# Altium schematic symbol library OltestLib_popadjuk.SchLib: 115 symbols (part 1 of 2)
Pins are listed as number, name and electrical type; pins without a type are passive.

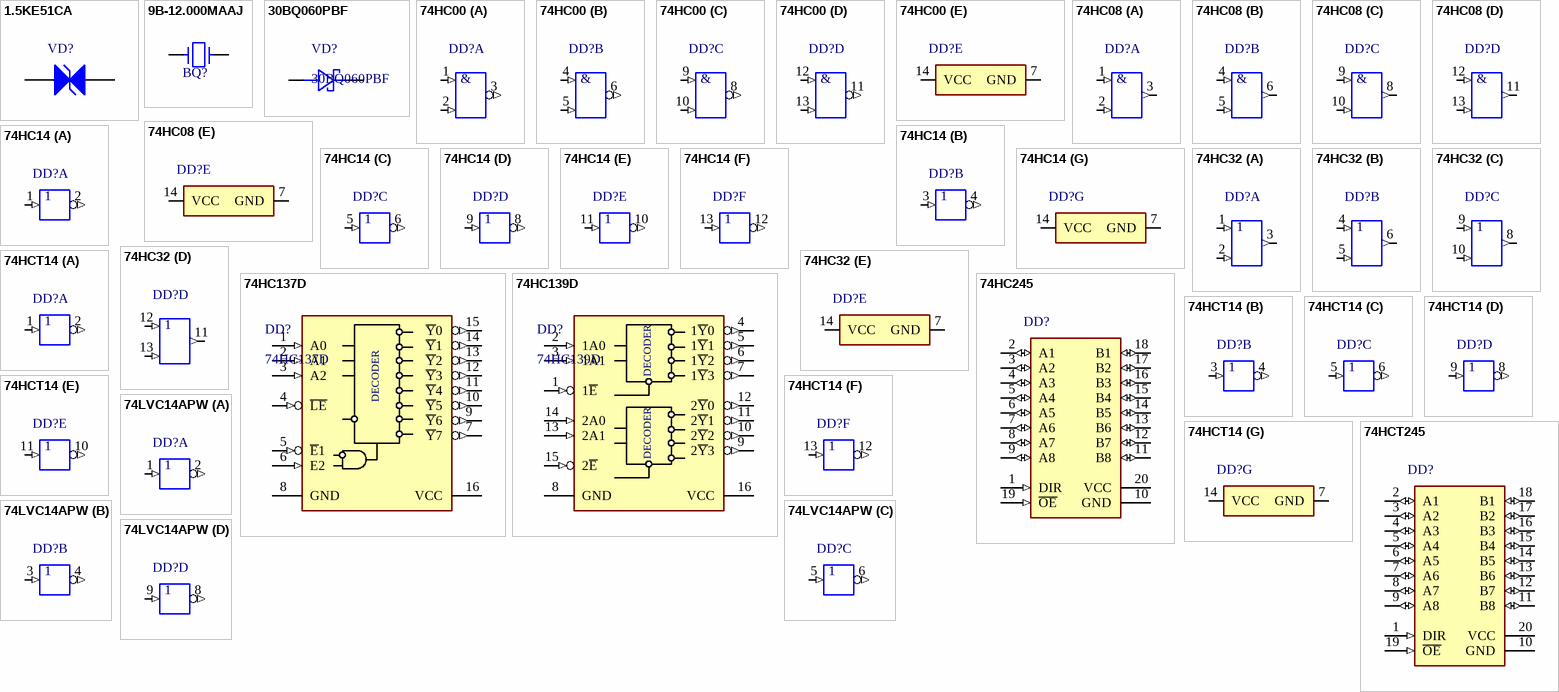
[diagram p0: symbols 1.5KE51CA to 74LVC14APW]

## 1.5KE51CA
designator VD?
1500 W Zener Transient Voltage Suppressor, Bidirectional; Manufacturer: LITTELFUSE; PartNumber: 1.5KE51CA
footprint 1.5KE_CA (AXIAL, 2-Leads, Diameter 5.05mm)
pins: 1, 2

## 9B-12.000MAAJ
designator BQ?, comment 12MHz  (value not drawn)
12MHz Quartz Crystal HC-49S; PartNumber: 9B-12.000MAAJ; Manufacturer: TXC; Value: 12MHz
footprint HC-49S
pins: 1, 2

## 30BQ060PBF
designator VD?
3A/60V Schottky 30BQ060PBF Diode (SMC); Manufacturer: NXP; PartNumber: 30BQ060PBF
footprint SMC_VD_L8.1_W6.2 (Schottky Diode, 2-Leads, Body 8,13x6,52mm, IPC Low Density)
pins: 1 ANODE, 2 CATHODE

## 74HC00
designator DD?
Quad 2-Input Positive-NAND Gates, PW0014A; Generic Part Number: SN74HC00; Manufacturer: Texas Instruments; PartNumber: SN74HC00PW; VCC(Min)(V): 2; VCC(Max)(V): 6; Output Type: CMOS; ICC @ Nom Voltage(Max)(mA): 0.02; Bits(#): 4; F @ Nom Voltage(Max)(Mhz): 70; Technology Family: HC; Voltage(Nom)(V): 5; Schmitt Trigger: Yes; Output Drive (IOL/IOH)(Max)(mA): 5.2/-5.2; tpd @ Nom Voltage(Max)(ns): 23; PackageReference: PW0014A; Input Type: CMOS; Operating Temperature Range(C): -40 to 85
footprint PW0014A_M (SOP, 14-Leads, Body 5.1x4.5mm, Pitch 0.65mm, IPC Low Density)
part A pins: 1 1A (in) "Gate 1 input", 2 1B (in) "Gate 1 input", 3 1Y (out) "Gate 1 output"
part B pins: 4 2A (in) "Gate 2 input", 5 2B (in) "Gate 2 input", 6 2Y (out) "Gate 2 output"
part C pins: 8 3Y (out) "Gate 3 output", 9 3A (in) "Gate 3 input", 10 3B (in) "Gate 3 input"
part D pins: 11 4Y (out) "Gate 4 output", 12 4A (in) "Gate 4 input", 13 4B (in) "Gate 4 input"
part E pins: 7 GND (power) "Ground Pin", 14 VCC (power) "Power Pin"
part A text: &
part B text: &
part C text: &
part D text: &

## 74HC08
designator DD?
Quadruple 2-Input Positive-AND Gates, PW0014A, TUBE; Generic Part Number: SN74HC08; Manufacturer: Texas Instruments; PartNumber: SN74HC08PW; VCC(Min)(V): 2; VCC(Max)(V): 6; Output Type: CMOS; ICC @ Nom Voltage(Max)(mA): 0.02; Bits(#): 4; F @ Nom Voltage(Max)(Mhz): 70; Rating: Catalog; Technology Family: HC; Voltage(Nom)(V): 5; Schmitt Trigger: No; tpd @ Nom Voltage(Max)(ns): 28; DatasheetVersion: SCLS081F; PackageReference: PW0014A; Input Type: CMOS; Operating Temperature Range(C): -40 to 85
footprint PW0014A_M (SOP, 14-Leads, Body 5.1x4.5mm, Pitch 0.65mm, IPC Low Density)
part A pins: 1 1A (in), 2 1B (in), 3 1Y (out)
part B pins: 4 2A (in), 5 2B (in), 6 2Y (out)
part C pins: 8 3Y (out), 9 3A (in), 10 3B (in)
part D pins: 11 4Y (out), 12 4A (in), 13 4B (in)
part E pins: 7 GND (power), 14 VCC (power)
part A text: &
part B text: &
part C text: &
part D text: &

## 74HC14
designator DD?
Quadruple 2-Input Positive-OR Gates, PW0014A; Manufacturer: Texas Instruments; PartNumber: SN74HC14PW; VCC(Min)(V): 2; VCC(Max)(V): 6; Output Type: CMOS; ICC @ Nom Voltage(Max)(mA): 0.02; Bits(#): 4; F @ Nom Voltage(Max)(Mhz): 70; Voltage(Nom)(V): 5; Output Drive (IOL/IOH)(Max)(mA): 5.2/-5.2; tpd @ Nom Voltage(Max)(ns): 25; PackageReference: PW0014A; Input Type: CMOS; Operating Temperature Range(C): -40 to 85
footprint PW0014A_M (SOP, 14-Leads, Body 5.1x4.5mm, Pitch 0.65mm, IPC Low Density)
part A pins: 1 1A (in), 2 1Y (out)
part B pins: 3 2A (in), 4 2Y (out)
part C pins: 5 3A (in), 6 3Y (out)
part D pins: 8 4Y (out), 9 4A (in)
part E pins: 10 5Y (out), 11 5A (in)
part F pins: 12 6Y (out), 13 6A (in)
part G pins: 7 GND (power), 14 VCC (power)

## 74HC32
designator DD?
Quadruple 2-Input Positive-OR Gates, PW0014A; Generic Part Number: SN74HC32; Manufacturer: Texas Instruments; PartNumber: SN74HC32PW; VCC(Min)(V): 2; VCC(Max)(V): 6; Output Type: CMOS; ICC @ Nom Voltage(Max)(mA): 0.02; Bits(#): 4; F @ Nom Voltage(Max)(Mhz): 70; Voltage(Nom)(V): 5; Output Drive (IOL/IOH)(Max)(mA): 5.2/-5.2; tpd @ Nom Voltage(Max)(ns): 25; PackageReference: PW0014A; Input Type: CMOS; Operating Temperature Range(C): -40 to 85
footprint PW0014A_M (SOP, 14-Leads, Body 5.1x4.5mm, Pitch 0.65mm, IPC Low Density)
part A pins: 1 1A (in), 2 1B (in), 3 1Y (out)
part B pins: 4 2A (in), 5 2B (in), 6 2Y (out)
part C pins: 8 3Y (out), 9 3A (in), 10 3B (in)
part D pins: 11 4Y (out), 12 4A (in), 13 4B (in)
part E pins: 7 GND (power), 14 VCC (power)

## 74HC137D
designator DD?
3-to-8 line decoder, demultiplexer with address latches;  inverting; Manufacturer: NXP; PartNumber: 74HC137D
footprint SOIC-16N (SOIC, 16-Leads, Body 9,80x3,90mm, Pitch 1,27mm, IPC Medium Density)
pins: 1 A0 (in) "Logic Input B.", 2 A1 (in) "Logic Input C.", 3 A2 (in) "Logic Input B.", 4 ~{LE} (in) "Logic Input A.", 5 ~{E}1 (in) "Logic Input A.", 6 E2 (in) "Logic Input A.", 7 ~{Y}7 (out), 8 GND (power) "Ground 1. Ground reference for Isolator Side 1.", 9 ~{Y}6 (out), 10 ~{Y}5 (out), 11 ~{Y}4 (out), 12 ~{Y}3 (out), 13 ~{Y}2 (out), 14 ~{Y}1 (out), 15 ~{Y}0 (out), 16 VCC (power) "Ground 2. Ground reference for Isolator Side 2."
text: DECODER

## 74HC139D
designator DD?
Dual 2-to-4 line decoder/demultiplexer; Manufacturer: NXP; PartNumber: 74HC139D
footprint SOIC-16N (SOIC, 16-Leads, Body 9,80x3,90mm, Pitch 1,27mm, IPC Medium Density)
pins: 1 1~{E} (in) "Logic Input A.", 2 1A0 (in) "Logic Input B.", 3 1A1 (in) "Logic Input C.", 4 1~{Y}0 (out), 5 1~{Y}1 (out), 6 1~{Y}2 (out), 7 1~{Y}3 (out), 8 GND (power) "Ground 1. Ground reference for Isolator Side 1.", 9 2~{Y}3 (out), 10 2~{Y}2 (out), 11 2~{Y}1 (out), 12 2~{Y}0 (out), 13 2A1 (in) "Logic Input C.", 14 2A0 (in) "Logic Input B.", 15 2~{E} (in) "Logic Input A.", 16 VCC (power) "Ground 2. Ground reference for Isolator Side 2."
text: DECODER

## 74HC245
designator DD?
Octal Bus Transceivers With 3-State Outputs, PW0020A; Manufacturer: Texas Instruments; PartNumber: SN74HC245PW; VCC(Min)(V): 2; VCC(Max)(V): 6; Output Type: CMOS; ICC @ Nom Voltage(Max)(mA): 0.08; Bits(#): 8; F @ Nom Voltage(Max)(Mhz): 28; Rating: Catalog; Technology Family: HC; Schmitt Trigger: No; Output Drive (IOL/IOH)(Max)(mA): -6/6; tpd @ Nom Voltage(Max)(ns): 22; DatasheetVersion: SCLS131D; PackageReference: PW0020A; Input Type: CMOS; Operating Temperature Range(C): -40 to 85; Voltage(Nom)(V): 6
footprint PW0020A_M (SOP, 20-Leads, Body 6.6x4.5mm, Pitch 0.65mm, IPC Low Density)
pins: 1 DIR (in), 2 A1 (io), 3 A2 (io), 4 A3 (io), 5 A4 (io), 6 A5 (io), 7 A6 (io), 8 A7 (io), 9 A8 (io), 10 GND (power), 11 B8 (io), 12 B7 (io), 13 B6 (io), 14 B5 (io), 15 B4 (io), 16 B3 (io), 17 B2 (io), 18 B1 (io), 19 ~{OE} (in), 20 VCC (power)

## 74HCT14
designator DD?
Quadruple 2-Input Positive-OR Gates, PW0014A; Manufacturer: Texas Instruments; PartNumber: SN74HC14TPW; PackageReference: PW0014A
footprint PW0014A_M (SOP, 14-Leads, Body 5.1x4.5mm, Pitch 0.65mm, IPC Low Density)
part A pins: 1 1A (in), 2 1Y (out)
part B pins: 3 2A (in), 4 2Y (out)
part C pins: 5 3A (in), 6 3Y (out)
part D pins: 8 4Y (out), 9 4A (in)
part E pins: 10 5Y (out), 11 5A (in)
part F pins: 12 6Y (out), 13 6A (in)
part G pins: 7 GND (power), 14 VCC (power)

## 74HCT245
designator DD?
Octal Bus Transceivers With 3-State Outputs, PW0020A; Manufacturer: Texas Instruments; PartNumber: SN74HCT245PW; VCC(Min)(V): 2; VCC(Max)(V): 6; Output Type: CMOS; ICC @ Nom Voltage(Max)(mA): 0.08; Bits(#): 8; F @ Nom Voltage(Max)(Mhz): 28; Rating: Catalog; Technology Family: HCT; Schmitt Trigger: No; Output Drive (IOL/IOH)(Max)(mA): -6/6; tpd @ Nom Voltage(Max)(ns): 22; PackageReference: PW0020A; Input Type: CMOS; Operating Temperature Range(C): -40 to 85; Voltage(Nom)(V): 6
footprint PW0020A_M (SOP, 20-Leads, Body 6.6x4.5mm, Pitch 0.65mm, IPC Low Density)
pins: 1 DIR (in), 2 A1 (io), 3 A2 (io), 4 A3 (io), 5 A4 (io), 6 A5 (io), 7 A6 (io), 8 A7 (io), 9 A8 (io), 10 GND (power), 11 B8 (io), 12 B7 (io), 13 B6 (io), 14 B5 (io), 15 B4 (io), 16 B3 (io), 17 B2 (io), 18 B1 (io), 19 ~{OE} (in), 20 VCC (power)

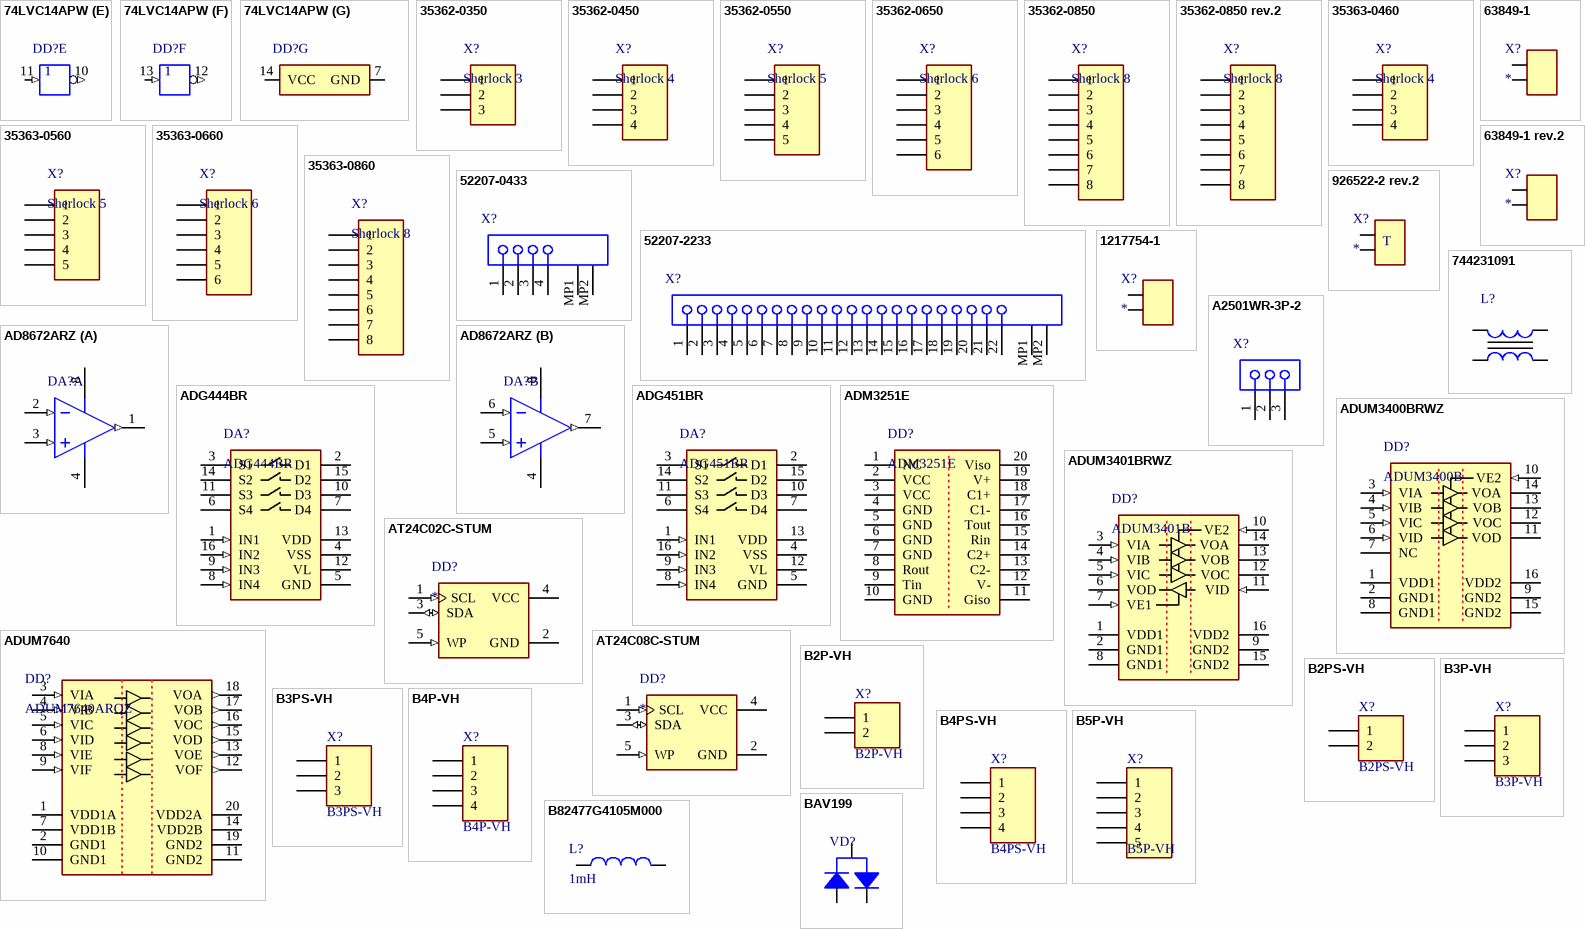
[diagram p1: symbols 74LVC14APW to BAV199]

## 74LVC14APW
designator DD?
Quadruple 2-Input Positive-OR Gates, PW0014A; Manufacturer: Texas Instruments; PartNumber: SN74LVC14APW; PackageReference: PW0014A
footprint PW0014A_M (SOP, 14-Leads, Body 5.1x4.5mm, Pitch 0.65mm, IPC Low Density)
part A pins: 1 1A (in), 2 1Y (out)
part B pins: 3 2A (in), 4 2Y (out)
part C pins: 5 3A (in), 6 3Y (out)
part D pins: 8 4Y (out), 9 4A (in)
part E pins: 10 5Y (out), 11 5A (in)
part F pins: 12 6Y (out), 13 6A (in)
part G pins: 7 GND (power), 14 VCC (power)

## 35362-0350
designator X?, comment Sherlock 3
Sherlock 3 Top, 2A 125V 2mm; PartNumber: 35362-0350; Manufacturer: MOLEX
footprint 35362-0350
pins: 1, 2, 3

## 35362-0450
designator X?, comment Sherlock 4
Sherlock 4 Top, 2A 125V 2mm; PartNumber: 35362-0450; Manufacturer: MOLEX
footprint 35362-0450
pins: 1, 2, 3, 4

## 35362-0550
designator X?, comment Sherlock 5
Sherlock 5 Top, 2A 125V 2mm; PartNumber: 35362-0550; Manufacturer: MOLEX
footprint 35362-0550
pins: 1, 2, 3, 4, 5

## 35362-0650
designator X?, comment Sherlock 6
Sherlock 6 Top, 2A 125V 2mm; PartNumber: 35362-0650; Manufacturer: MOLEX
footprint 35362-0650
pins: 1, 2, 3, 4, 5, 6

## 35362-0850
designator X?, comment Sherlock 8
Sherlock 8 Top, 2A 125V 2mm; PartNumber: 35362-0850; Manufacturer: MOLEX
footprint 35362-0850 - 3D (2.00mm Pitch Sherlock™ Wire-to-Board Header, Vertical, with Positive Lock, 8 Circuits, with Kinked PC Tails, Naturalh Positive Lock, 8 Circuits)
pins: 1, 2, 3, 4, 5, 6, 7, 8

## 35362-0850 rev.2
designator X?, comment Sherlock 8
Sherlock 8 Top, 2A 125V 2mm; PartNumber: 35362-0850; Manufacturer: MOLEX
footprint 35362-0850 - 3D rev.2 (2.00mm Pitch Sherlock™ Wire-to-Board Header, Vertical, with Positive Lock, 8 Circuits, with Kinked PC Tails, Naturalh Positive Lock, 8 Circuits)
pins: 1, 2, 3, 4, 5, 6, 7, 8

## 35363-0460
designator X?, comment Sherlock 4
Sherlock 4 Side, 2A 125V 2mm; PartNumber: 35363-0460; Manufacturer: MOLEX
footprint 35363-0460
pins: 1, 2, 3, 4

## 35363-0560
designator X?, comment Sherlock 5
Sherlock 5 Side, 2A 125V 2mm; PartNumber: 35363-0560; Manufacturer: MOLEX
footprint 35363-0560
pins: 1, 2, 3, 4, 5

## 35363-0660
designator X?, comment Sherlock 6
Sherlock 6 Side, 2A 125V 2mm; PartNumber: 35362-0650; Manufacturer: MOLEX
footprint 35363-0860 (2.00mm Pitch Sherlock™ Wire-to-Board Header, Right Angle, with Positive Lock, 8 Circuits)
pins: 1, 2, 3, 4, 5, 6

## 35363-0860
designator X?, comment Sherlock 8
Sherlock 8 Top, 2A 125V 2mm; PartNumber: 35363-0860; Manufacturer: MOLEX
footprint 35363-0860 (2.00mm Pitch Sherlock™ Wire-to-Board Header, Right Angle, with Positive Lock, 8 Circuits)
pins: 1, 2, 3, 4, 5, 6, 7, 8

## 52207-0433
designator X?
1.0 mm Pitch, 4 Circuits, FPC Connector, Right Angle, ZIF, SMT; Manufacturer: Molex; PartNumber: 52207-0433
footprint MOLX-52207-0433 (FPC Connector, 4-Leads, Right Angle, Pitch 1.0 mm, Mated Height 2.7 mm, SMT)
pins: 1, 2, 3, 4, MP1, MP2

## 52207-2233
designator X?
1.0 mm Pitch, 22 Circuits, FPC Connector, Right Angle, ZIF, SMT; Manufacturer: Molex; PartNumber: 52207-2233
footprint MOLX-52207-2233 (FPC Connector, 22-Leads, Right Angle, Pitch 1.0 mm, Mated Height 2.7 mm, SMT)
pins: 1, 2, 3, 4, 5, 6, 7, 8, 9, 10, 11, 12, 13, 14, 15, 16, 17, 18, 19, 20, 21, 22, MP1, MP2

## 63849-1
designator X?
PCB mount, 6.3x0.8; Manufacturer: TE Connectivity; PartNumber: 63849-1
footprint 63849-1 rev. 2
pins: 1, 2

## 63849-1 rev.2
designator X?
PCB mount, 6.3x0.8; Manufacturer: TE Connectivity; PartNumber: 63849-1
footprint 63849-1 rev. 2
pins: 1, 2

## 926522-2 rev.2
designator X?
PCB mount, 6.3x0.8 x2 "T"; Manufacturer: TE Connectivity; PartNumber: 926522-2
footprint 926522-2 rev.2 (Double 63849-1 "T")
pins: 1, 2
text: T

## 1217754-1
designator X?
Angle 90, PCB mount, 6.3x0.8; Manufacturer: TE Connectivity; PartNumber: 1217754-1
footprint 1217754-1
pins: 1, 2

## 744231091
designator L?
SMD Common Mode Noise Suppressor WE-CNSW, Z = 90 Ohm; PartNumber: 744231091; Manufacturer: Wurth Elektronik; Impedance: 90 Ohm; DatasheetVersion: ver 4, Nov-2010; PackageReference: WE-CNSW-0805; PackageDescription: SMD Inductor, 4-Leads, Body 1.4 x 2.2 mm
footprint WE-CNSW-0805 (SMD Inductor, 4-Leads, Body 1.4x2.2x1.4 mm)
pins: 1, 2, 3, 4

## A2501WR-3P-2
designator X?
3A 250V 2.5mm (Analog JST S3B-XH-A-1); Manufacturer: JOINT TECH; PartNumber: A2501WR-3P-2
footprint S3B-XH-A-1
pins: 1, 2, 3

## AD8672ARZ
designator DA?
Double Channel Wide Bandwidth Operational Amplifier, 10 MHz BW, 4 V/us SR, Industrial, 8-pin SOIC (R-8), Tube; Generic Part Number: AD8672; Manufacturer: Analog Devices; PartNumber: AD8672ARZ; Amplifiers Per Package: 2; Input Bias Current: 3nA; Input Offset Voltage: 20uV; Iq/Amp: 3.5mA; Slew Rate: 4V/us; Small Signal Bandwidth: 10MHz; V Span Max: 30V; V Span Min: 10V; DatasheetVersion: Rev. E; PackageVersion: 060506-A; PackageReference: R-8; PackageDescription: 8-Pin Standard Small Outline Package, Body 3.9 x 4.9 mm, Pitch 1.27 mm; Supplier Part Number 1: AD8672ARZ-ND; Supplier Part Number 2: 1581957; Supplier Part Number 3: 19M0999; Mounting Technology: Surface Mount; Code_JEDEC: MS-012-AA; ComponentLink1Description: Manufacturer URL; ComponentLink1URL: http://www.analog.com/en/index.html; ComponentLink2Description: Datasheet; ComponentLink2URL: http://www.analog.com/static/imported-files/data_sheets/AD8671_8672_8674.pdf; ComponentLink3Description: Package Specification; ComponentLink3URL: http://www.analog.com/static/imported-files/packages/PKG_PDF/SOIC_Narrow%20(R)/R_8.pdf; ComponentLink4Description: Reference Circuit; ComponentLink4URL: http://www.analog.com/en/all-operational-amplifiers-op-amps/operational-amplifiers-op-amps/ad8672/products/product.html#product-recommendations
footprint ADI-R-8_N (SOIC, 8-Leads, Body 4.9x3.9mm, Pitch 1.27mm, IPC Medium Density)
pins on every part: 4 -V (power), 8 +V (power)
part A pins: 1 OUT A (out), 2 -IN A (in), 3 +IN A (in)
part B pins: 5 +IN B (in), 6 -IN B (in), 7 OUT B (out)

## ADG444BR
designator DA?
LC2MOS Quad SPST Switches, 40 Ohm Ron, 16-pin SOIC (R-16), Tube; Manufacturer: Analog Devices; # Sw Functions: 4; Max Neg Supply: -16.5V; Max Pos Supply: +16.5V; Ron (ohms): 40, 70; t ON: 85ns, 105ns; DatasheetVersion: Rev. A; PackageVersion: 060606-A, 06/2006; PackageReference: R-16; PackageDescription: 16-Pin Standard Small Outline Package, Body 9.9 x 3.9 mm, Pitch 1.27 mm; Configuration: SPST; Packing: Tube; Mounting Technology: Surface Mount; Code_JEDEC: MS-012-AC; PartNumber: ADG444BR; ComponentLink1Description: Manufacturer URL; ComponentLink1URL: http://www.analog.com/en/index.html; ComponentLink2Description: Datasheet; ComponentLink2URL: http://www.analog.com/static/imported-files/data_sheets/ADG441_442_444.pdf; ComponentLink3Description: Package Specification; ComponentLink3URL: http://www.analog.com/static/imported-files/packages/PKG_PDF/SOIC_Narrow%20(R)/R_16.pdf
footprint ADI-R-16_N (SOIC, 16-Leads, Body 9.9x3.9mm, Pitch 1.27mm, IPC Medium Density)
pins: 1 IN1 (in) "Logic Control Input.", 2 D1 "Drain Terminal. May be an input or output.", 3 S1 "Source Terminal. May be an input or output.", 4 VSS (power) "Most Negative Power Supply Potential in Dual Supplies. In single supply applications, it may be connected to GND.", 5 GND (power) "Ground (0 V) Reference.", 6 S4 "Source Terminal. May be an input or output.", 7 D4 "Drain Terminal. May be an input or output.", 8 IN4 (in) "Logic Control Input.", 9 IN3 (in) "Logic Control Input.", 10 D3 "Drain Terminal. May be an input or output.", 11 S3 "Source Terminal. May be an input or output.", 12 VL (power) "Logic Power Supply (5 V).", 13 VDD (power) "Most Positive Power Supply Potential.", 14 S2 "Source Terminal. May be an input or output.", 15 D2 "Drain Terminal. May be an input or output.", 16 IN2 (in) "Logic Control Input."

## ADG451BR
designator DA?
LC2MOS Quad SPST Switches, 4 Ohm Ron, 16-pin SOIC (R-16), Tube; Manufacturer: Analog Devices; # Sw Functions: 4; Max Neg Supply: -16.5V; Max Pos Supply: +16.5V; Ron (ohms): 4, 7; DatasheetVersion: Rev. A; Configuration: SPST; Mounting Technology: Surface Mount; PartNumber: ADG451BR; ComponentLink1Description: Manufacturer URL; ComponentLink1URL: http://www.analog.com/en/index.html; ComponentLink2Description: Datasheet; ComponentLink2URL: http://www.analog.com/static/imported-files/data_sheets/ADG441_442_444.pdf; ComponentLink3Description: Package Specification; ComponentLink3URL: http://www.analog.com/static/imported-files/packages/PKG_PDF/SOIC_Narrow%20(R)/R_16.pdf
footprint ADI-R-16_N (SOIC, 16-Leads, Body 9.9x3.9mm, Pitch 1.27mm, IPC Medium Density)
pins: 1 IN1 (in) "Logic Control Input.", 2 D1 "Drain Terminal. May be an input or output.", 3 S1 "Source Terminal. May be an input or output.", 4 VSS (power) "Most Negative Power Supply Potential in Dual Supplies. In single supply applications, it may be connected to GND.", 5 GND (power) "Ground (0 V) Reference.", 6 S4 "Source Terminal. May be an input or output.", 7 D4 "Drain Terminal. May be an input or output.", 8 IN4 (in) "Logic Control Input.", 9 IN3 (in) "Logic Control Input.", 10 D3 "Drain Terminal. May be an input or output.", 11 S3 "Source Terminal. May be an input or output.", 12 VL (power) "Logic Power Supply (5 V).", 13 VDD (power) "Most Positive Power Supply Potential.", 14 S2 "Source Terminal. May be an input or output.", 15 D2 "Drain Terminal. May be an input or output.", 16 IN2 (in) "Logic Control Input."

## ADM3251E
designator DD?
Isolated, Single-Channel, RS-232 Line Driver/Receiver; Manufacturer: Analog Device; PartNumber: ADM3251EARWZ
footprint RW-20 (SOIC, 20-Leads, Body 12,80x7,50mm, Pitch 1,27mm, IPC Low Density)
pins: 1 NC, 2 VCC (power), 3 VCC (power), 4 GND (power), 5 GND (power), 6 GND (power), 7 GND (power), 8 Rout, 9 Tin, 10 GND (power), 11 Giso, 12 V-, 13 C2-, 14 C2+, 15 Rin, 16 Tout, 17 C1-, 18 C1+, 19 V+, 20 Viso

## ADUM3400BRWZ
designator DD?, comment ADUM3400B
Quad Channel Digital Isolator, Enhanced System-Level ESD Reliability, 2.5 KV rms Insulation Rating, 10 Mbps Data Rate, 50 ns Delay, Industrial, 16-pin SOIC (RW-16), Tube; Manufacturer: Analog Devices; PartNumber: ADUM3400BRWZ; Insulation Rating (kVrms): 2.5; Max Data Rate: 10Mbps; DatasheetVersion: Rev. B; PackageVersion: 032707-B, 03/2007; PackageReference: RW-16; PackageDescription: 16-Pin Standard Small Outline Package, Body 10.3 x 7.5 mm, Pitch 1.27 mm; Max Operating Temp (degreesC): 105; Mounting Technology: Surface Mount; Code_JEDEC: MS-013-AA; ComponentLink1Description: Manufacturer URL; ComponentLink1URL: http://www.analog.com/en/index.html; ComponentLink2Description: Datasheet; ComponentLink2URL: http://www.analog.com/static/imported-files/data_sheets/ADUM3400_3401_3402.pdf; ComponentLink3Description: Package Specification; ComponentLink3URL: http://www.analog.com/static/imported-files/packages/PKG_PDF/SOIC_WIDE%20%28RW%29/RW_16.pdf; ComponentLink4Description: URL Link1; ComponentLink4URL: Product URL:http://www.analog.com/en/interface-isolation/digital-isolators/adum3400/products/product.html
footprint ADI-RW-16_N (SOIC, 16-Leads, Body 10.3x7.5mm, Pitch 1.27mm, IPC Medium Density)
pins: 1 VDD1 (power) "Supply Voltage for Isolator Side 1.", 2 GND1 (power) "Ground 1. Ground reference for Isolator Side 1.", 3 VIA (in) "Logic Input A.", 4 VIB (in) "Logic Input B.", 5 VIC (in) "Logic Input C.", 6 VID (in) "Logic Input D.", 7 NC "No Connect.", 8 GND1 (power) "Ground 1. Ground reference for Isolator Side 1.", 9 GND2 (power) "Ground 2. Ground reference for Isolator Side 2.", 10 VE2 (in) "Output Enable 2. Active high logic input. VOA, VOB, VOC, and VOD outputs are enabled when VE2 is high or disconnected. VOA, VOB, VOC, and VOD outputs are disabled when VE2 is low. In noisy environments, connecting VE2 to an (See Datasheet)", 11 VOD (hiz) "Logic Output D.", 12 VOC (hiz) "Logic Output C.", 13 VOB (hiz) "Logic Output B.", 14 VOA (hiz) "Logic Output A.", 15 GND2 (power) "Ground 2. Ground reference for Isolator Side 2.", 16 VDD2 (power) "Supply Voltage for Isolator Side 2."

## ADUM3401BRWZ
designator DD?, comment ADUM3401B
Quad Channel Digital Isolator, Enhanced System-Level ESD Reliability, 2.5 KV rms Insulation Rating, 10 Mbps Data Rate, 50 ns Delay, Industrial, 16-pin SOIC (RW-16), Tube; Manufacturer: Analog Devices; PartNumber: ADUM3401BRWZ; Insulation Rating (kVrms): 2.5; Max Data Rate: 10Mbps; DatasheetVersion: Rev. B; PackageVersion: 032707-B, 03/2007; PackageReference: RW-16; PackageDescription: 16-Pin Standard Small Outline Package, Body 10.3 x 7.5 mm, Pitch 1.27 mm; Max Operating Temp (degreesC): 105; Mounting Technology: Surface Mount; Code_JEDEC: MS-013-AA; ComponentLink1Description: Manufacturer URL; ComponentLink1URL: http://www.analog.com/en/index.html; ComponentLink2Description: Datasheet; ComponentLink2URL: http://www.analog.com/static/imported-files/data_sheets/ADUM3400_3401_3402.pdf; ComponentLink3Description: Package Specification; ComponentLink3URL: http://www.analog.com/static/imported-files/packages/PKG_PDF/SOIC_WIDE%20%28RW%29/RW_16.pdf; ComponentLink4Description: URL Link1; ComponentLink4URL: Product URL:http://www.analog.com/en/interface-isolation/digital-isolators/adum3401/products/product.html
footprint ADI-RW-16_N (SOIC, 16-Leads, Body 10.3x7.5mm, Pitch 1.27mm, IPC Medium Density)
pins: 1 VDD1 (power) "Supply Voltage for Isolator Side 1.", 2 GND1 (power) "Ground 1. Ground reference for Isolator Side 1.", 3 VIA (in) "Logic Input A.", 4 VIB (in) "Logic Input B.", 5 VIC (in) "Logic Input C.", 6 VOD (hiz) "Logic Output D.", 7 VE1 (in) "Output Enable 1. Active high logic input. VOD output is enabled when VE1 is high or disconnected. VOD is disabled when VE1 is low. In noisy environments, connecting VE1 to an external logic high or low is recommended.", 8 GND1 (power) "Ground 1. Ground reference for Isolator Side 1.", 9 GND2 (power) "Ground 2. Ground reference for Isolator Side 2.", 10 VE2 (in) "Output Enable 2. Active high logic input. VOA, VOB, and VOC outputs are enabled when VE2 is high or disconnected. VOA, VOB, and VOC outputs are disabled when VE2 is low. In noisy environments, connecting VE2 to an external (See Datasheet)", 11 VID (in) "Logic Input D.", 12 VOC (hiz) "Logic Output C.", 13 VOB (hiz) "Logic Output B.", 14 VOA (hiz) "Logic Output A.", 15 GND2 (power) "Ground 2. Ground reference for Isolator Side 2.", 16 VDD2 (power) "Supply Voltage for Isolator Side 2."

## ADUM7640
designator DD?, comment ADUM7640ARQZ
Manufacturer: Analog Devices; PartNumber: ADUM7640ARQZ
footprint RQ-20 (QSOP, 20-Leads, Body 8,66x3,91mm, Pitch 0,64mm, IPC Low Density)
pins: 1 VDD1A (power) "Supply Voltage for Isolator Side 1.", 2 GND1 (power) "Ground 1. Ground reference for Isolator Side 1.", 3 VIA (in) "Logic Input A.", 4 VIB (in) "Logic Input B.", 5 VIC (in) "Logic Input C.", 6 VID (in) "Logic Input D.", 7 VDD1B (power) "Supply Voltage for Isolator Side 1.", 8 VIE (in) "Logic Input D.", 9 VIF (in) "Logic Input D.", 10 GND1 (power) "Ground 1. Ground reference for Isolator Side 1.", 11 GND2 (power) "Ground 2. Ground reference for Isolator Side 2.", 12 VOF (out) "Logic Output D.", 13 VOE (out) "Logic Output C.", 14 VDD2B (power) "Supply Voltage for Isolator Side 2.", 15 VOD (out) "Logic Output D.", 16 VOC (out) "Logic Output C.", 17 VOB (out) "Logic Output B.", 18 VOA (out) "Logic Output A.", 19 GND2 (power) "Ground 2. Ground reference for Isolator Side 2.", 20 VDD2A (power) "Supply Voltage for Isolator Side 2."

## AT24C02C-STUM
designator DD?
I2C Serial EEPROM, 2-Kbit (256 x 8); PartNumber: AT24C02C-STUM-T; Manufacturer: ATMEL
footprint 5TS1 (SOT23, 5-Leads, Body 2,90x2,80mm, Pitch 0,95mm, IPC Medium Density)
pins: 1 SCL (in), 2 GND (power), 3 SDA (io), 4 VCC (power), 5 WP (in)

## AT24C08C-STUM
designator DD?
I2C Serial EEPROM, 8-Kbit (1024 x 8); PartNumber: AT24C08C-STUM-T; Manufacturer: ATMEL
footprint 5TS1 (SOT23, 5-Leads, Body 2,90x2,80mm, Pitch 0,95mm, IPC Medium Density)
pins: 1 SCL (in), 2 GND (power), 3 SDA (io), 4 VCC (power), 5 WP (in)

## B2P-VH
designator X?
VH Top, 10A 250V 3.96mm; Manufacturer: JST; PartNumber: B2P-VH
footprint B2P-VH
pins: 1, 2

## B2PS-VH
designator X?
VH Side, 10A 250V 3.96mm; Manufacturer: JST; PartNumber: B2PS-VH
footprint B2PS-VH
pins: 1, 2

## B3P-VH
designator X?
VH Top, 10A 250V 3.96mm; Manufacturer: JST; PartNumber: B3P-VH
footprint B3P-VH
pins: 1, 2, 3

## B3PS-VH
designator X?
VH Side, 10A 250V 3.96mm; Manufacturer: JST; PartNumber: B3PS-VH
footprint B3PS-VH
pins: 1, 2, 3

## B4P-VH
designator X?
VH Top, 10A 250V 3.96mm; Manufacturer: JST; PartNumber: B4P-VH
footprint B4P-VH
pins: 1, 2, 3, 4

## B4PS-VH
designator X?
VH Side, 10A 250V 3.96mm; Manufacturer: JST; PartNumber: B4PS-VH
footprint B4PS-VH
pins: 1, 2, 3, 4

## B5P-VH
designator X?
VH Top, 10A 250V 3.96mm; Manufacturer: JST; PartNumber: B5P-VH
footprint B5P-VH
pins: 1, 2, 3, 4, 5

## B82477G4105M000
designator L?, comment 1mH
1mH/0.55A 20% (1,68) Ferrite inductor SMD (12.8x12.8x8); Manufacturer: TDK(EPCOS); PartNumber: B82477G4105M000; Value: 1mH
footprint SMD_L_L12.8_W12.8 (Precision Wire Wound Inductor, 2-Leads, Body 12,80x12,80mm, IPC Low Density)
pins: 1, 2

## BAV199
designator VD?
Dual Series Switching Diodes, 3-Pin SOT-23, Tape and Reel; Manufacturer: On Semiconductor; PartNumber: BAV199LT1
footprint SOT-23-3 (SOT23, 3-Leads, Body 2.92x1.3mm, Pitch 0.95mm)
pins: 1 A, 2 K, 3 K/A

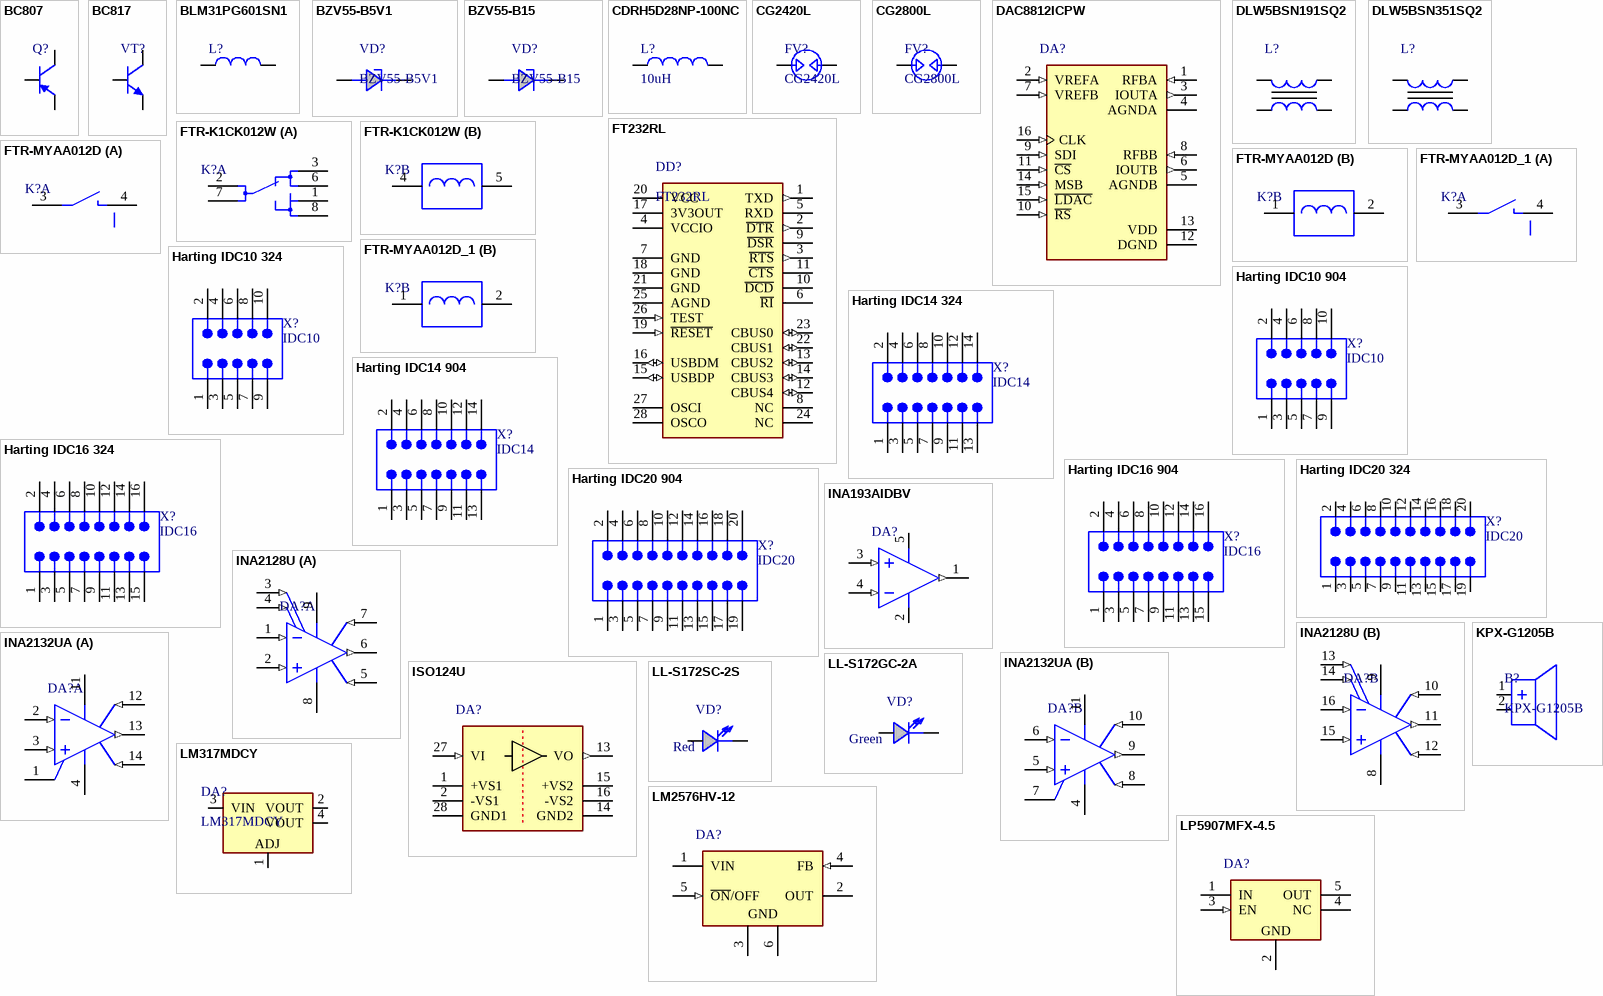
[diagram p2: symbols BC807 to LP5907MFX-4.5]

## BC807
designator Q?
PNP Silicon, 3-Pin SOT-23; Manufacturer: NXP; PartNumber: BC807
footprint SOT-23-3 (SOT23, 3-Leads, Body 2.92x1.3mm, Pitch 0.95mm)
pins: 1 B, 2 E, 3 C

## BC817
designator VT?
NPN Silicon, 3-Pin SOT-23; Manufacturer: NXP; PartNumber: BC817
footprint SOT-23-3 (SOT23, 3-Leads, Body 2.92x1.3mm, Pitch 0.95mm)
pins: 1 B, 2 E, 3 C

## BLM31PG601SN1
designator L?
EMI Filter Bead; Manufacturer: MURATA; PartNumber: BLM31PG601SN1
footprint SMD_L_1206 (Chip Ind, 2-Leads, Body 3,20x1,60mm, IPC Low Density)
pins: 1, 2

## BZV55-B5V1
designator VD?
Volt. regul. diode, 0.5W 5.1V 2%; Manufacturer: NXP; PartNumber: BZV55-B5V1
footprint SOD80C (MELF Diode, 2-Leads, Body 3,50x1,53mm, IPC Medium Density)
pins: 1 ANODE, 2 CATHODE

## BZV55-B15
designator VD?
Volt. regul. diode, 0.5W 15V 2%; Manufacturer: NXP; PartNumber: BZV55-B15
footprint SOD80C (MELF Diode, 2-Leads, Body 3,50x1,53mm, IPC Medium Density)
pins: 1 ANODE, 2 CATHODE

## CDRH5D28NP-100NC
designator L?, comment 10uH
10uH, SMD Power Inductor; Manufacturer: SUMIDA; PartNumber: CDRH5D28NP-100NC; Value: 10uH
footprint CDRH5D28NP (Precision Wire Wound Inductor, 2-Leads, Body 5,75x5,75mm, IPC Low Density)
pins: 1, 2

## CG2420L
designator FV?
420V 20A Gas Discharge Tube; Manufacturer: LITTLEFUSE; PartNumber: CG2420L
footprint CG_L
pins: 1, 2

## CG2800L
designator FV?
800V 10A Gas Discharge Tube; Manufacturer: LITTLEFUSE; PartNumber: CG2800L
footprint CG_L
pins: 1, 2

## DAC8812ICPW
designator DA?
16-Bit, Dual Serial Input Multiplying DAC, -40 to 85 degC, 16-pin SOP (PW16), Green (RoHS & no Sb/Br); Manufacturer: Texas Instruments; PartNumber: DAC8812ICPW; DAC Channels: 2; DNL(Max)(+/-LSB): 1; Interface: Serial SPI; Power Consumption(Typ)(mW): 0.025; Resolution(Bits): 16; Settling Time(us): 0.5; SubFamily: Precision DAC (=<10MSPS); DatasheetVersion: SBAS349B; PackageVersion: 4040064-4/G, 02/2011; PackageReference: PW16; PackageDescription: 16-Pin Plastic Small Outline, Body 5 x 4.4 mm, Pitch 0.65 mm; Supplier Part Number 1: 296-19407-5-ND; Supplier Part Number 2: 1564903; Supplier Part Number 3: 71K2666; Supplier Part Number 4: 595-DAC8812ICPW; Eco-Plan: Green (RoHS & no Sb/Br); INL(Max)(+/-LSB): 1; Mounting Technology: Surface Mount; Code_JEDEC: MO-153; ComponentLink1Description: Manufacturer URL; ComponentLink1URL: http://www.ti.com/; ComponentLink2Description: Datasheet; ComponentLink2URL: http://www.ti.com/general/docs/lit/getliterature.tsp?genericPartNumber=DAC8812&fileType=pdf; ComponentLink3Description: Package Specification; ComponentLink3URL: http://www.ti.com/lit/ml/mpds361/mpds361.pdf
footprint TI-PW16_N (SOP, 16-Leads, Body 5x4.4mm, Pitch 0.65mm, IPC Medium Density)
pins: 1 RFBA (in) "Establish voltage output for DAC A by connecting to external amplifier output.", 2 VREFA (in) "DAC A Reference voltage input terminal. Establishes DAC A full-scale output voltage. Can be tied to VDD pin.", 3 IOUTA (out) "DAC A Current output.", 4 AGNDA (power) "DAC A Analog ground.", 5 AGNDB (power) "DAC B Analog ground.", 6 IOUTB (out) "DAC B Current output.", 7 VREFB (in) "DAC B Reference voltage input terminal. Establishes DAC B full-scale output voltage. Can be tied to VDD pin.", 8 RFBB (in) "Establish voltage output for DAC B by connecting to external amplifier output.", 9 SDI (in) "Serial data input; data loads directly into the shift register.", 10 ~{RS} (in) "Reset pin; active low input. Input registers and DAC registers are set to all 0s or midscale. Register data = 0x0000 when MSB = 0. Register data = 0x8000 when MSB = 1 for DAC8802.", 11 ~{CS} (in) "Chip-select; active low input. Disables shift register loading when high. Transfers serial register data to input register when C\S\ goes high. Does not affect L\D\A\C\ operation.", 12 DGND (power) "Digital ground.", 13 VDD (power) "Positive power-supply input. Specified range of operation 2.7 V to 5.5 V.", 14 MSB (in) "MSB bit sets output to either 0 or midscale during a RESET pulse (R\S\) or at system power-on. Output equals zero scale when MSB = 0 and midscale when MSB = 1. MSB pin can be permanently tied to ground or VDD.", 15 ~{LDAC} (in) "Load DAC register strobe; level sensitive active low. Transfers all input register data to the DAC registers. Asynchronous active low input. See Table 2 for operation.", 16 CLK (in) "Clock input. Positive edge clocks data into shift register."

## DLW5BSN191SQ2
designator L?
SMD Common Mode Choke Coil 5A Z = 350 Ohm / 100 MHz; PartNumber: DLW5BSN191SQ2; Manufacturer: MURATA; Impedance: 190 Ohm
footprint DLW5BSN (SMD Inductor)
pins: 1, 2, 3, 4

## DLW5BSN351SQ2
designator L?
SMD Common Mode Choke Coil Z = 350 Ohm / 100 MHz; PartNumber: DLW5BSN351SQ2; Manufacturer: MURATA; Impedance: 350 Ohm
footprint DLW5BSN (SMD Inductor)
pins: 1, 2, 3, 4

## FT232RL
designator DD?
USB UART Asynchronous Serial Data Transfer Chip, 28-pin SSOP; Manufacturer: FTDI; PartNumber: FT232RL
footprint SSOP-28_M (SOP, 28-Leads, Body 10.2x5.3mm, Pitch 0.65mm, IPC Low Density)
pins: 1 TXD (out), 2 ~{DTR} (out), 3 ~{RTS} (out), 4 VCCIO (power), 5 RXD, 6 ~{RI}, 7 GND (power), 8 NC, 9 ~{DSR}, 10 ~{DCD}, 11 ~{CTS}, 12 CBUS4 (io), 13 CBUS2 (io), 14 CBUS3 (io), 15 USBDP (io), 16 USBDM (io), 17 3V3OUT, 18 GND (power), 19 ~{RESET} (in), 20 VCC (power), 21 GND (power), 22 CBUS1 (io), 23 CBUS0 (io), 24 NC, 25 AGND (power), 26 TEST (in), 27 OSCI, 28 OSCO

## FTR-K1CK012W
designator K?
1 POLE - 16A 80A Inrush type Power Relay; PartNumber: FTR-K1CK012W; Manufacturer: Fujitsu
footprint FTR-K1
part A pins: 1, 2, 3, 6, 7, 8
part B pins: 4, 5

## FTR-MYAA012D
designator K?
1 POLE - 5A Slim Power Relay; PartNumber: FTR-MYAA012D; Manufacturer: Fujitsu
footprint FTR-MY
part A pins: 3, 4
part B pins: 1, 2

## FTR-MYAA012D_1
designator K?
1 POLE - 5A Slim Power Relay; PartNumber: FTR-MYAA012D; Manufacturer: Fujitsu
footprint FTR-MY
part A pins: 3, 4
part B pins: 1, 2

## Harting IDC10 324
designator X?, comment IDC10
Flat Cable Connector (IDC), Low-Profile Male Header, Straight Solder Pin, 10 Contacts, Performance Level 2; PartNumber: 09 18 510 6324; Manufacturer: HARTING
footprint 918510x324 (Connector; IDC, Low Profile Male Header, Thru-Hole; 10 Position; Vertical; Pitch 2.54 mm; Body 20.32 x 9.2 x 9.45 mm (LxWxH))
pins: 1, 2, 3, 4, 5, 6, 7, 8, 9, 10

## Harting IDC10 904
designator X?, comment IDC10
Flat Cable Connector (IDC), Standard Male Header, Straight Solder Pin, 10 Contacts, Long Levers, Performance Level 2; PartNumber: 09 18 510 6904; Manufacturer: HARTING
footprint 918510x904 (Connector; IDC, Thru-Hole; 10 Position; Vertical; Pitch 2.54 mm; Body 32.30 x 8.5 x 25.75 mm (LxWxH), Locking levers)
pins: 1, 2, 3, 4, 5, 6, 7, 8, 9, 10

## Harting IDC14 324
designator X?, comment IDC14
Flat Cable Connector (IDC), Low-Profile Male Header, Straight Solder Pin, 14 Contacts, Performance Level 2; PartNumber: 09 18 514 6324; Manufacturer: HARTING
footprint 918514x324 (Connector; IDC, Low Profile Male Header, Thru-Hole; 14 Position; Vertical; Pitch 2.54 mm; Body 25.40 x 9.2 x 9.45 mm (LxWxH))
pins: 1, 2, 3, 4, 5, 6, 7, 8, 9, 10, 11, 12, 13, 14

## Harting IDC14 904
designator X?, comment IDC14
Flat Cable Connector (IDC), Standard Male Header, Straight Solder Pin, 14 Contacts, Long Levers, Performance Level 2; PartNumber: 09 18 514 6904; Manufacturer: HARTING
footprint 918514x904 (Connector; IDC, Thru-Hole; 14 Position; Vertical; Pitch 2.54 mm; Body 37.40 x 8.5 x 25.75 mm (LxWxH), Locking levers)
pins: 1, 2, 3, 4, 5, 6, 7, 8, 9, 10, 11, 12, 13, 14

## Harting IDC16 324
designator X?, comment IDC16
Flat Cable Connector (IDC), Low-Profile Male Header, Straight Solder Pin, 16 Contacts, Performance Level 2; PartNumber: 09 18 516 6324; Manufacturer: HARTING
footprint 918516x324 (Connector; IDC, Low Profile Male Header, Thru-Hole; 16 Position; Vertical; Pitch 2.54 mm; Body 27.94 x 9.2 x 9.45 mm (LxWxH))
pins: 1, 2, 3, 4, 5, 6, 7, 8, 9, 10, 11, 12, 13, 14, 15, 16

## Harting IDC16 904
designator X?, comment IDC16
Flat Cable Connector (IDC), Standard Male Header, Straight Solder Pin, 16 Contacts, Long Levers, Performance Level 2; PartNumber: 09 18 516 6904; Manufacturer: HARTING
footprint 918516x904 (Connector; IDC, Thru-Hole; 16 Position; Vertical; Pitch 2.54 mm; Body 39.90 x 8.5 x 25.75 mm (LxWxH), Locking levers)
pins: 1, 2, 3, 4, 5, 6, 7, 8, 9, 10, 11, 12, 13, 14, 15, 16

## Harting IDC20 324
designator X?, comment IDC20
Flat Cable Connector (IDC), Low-Profile Male Header, Straight Solder Pin, 20 Contacts, Performance Level 2; PartNumber: 09 18 520 6324; Manufacturer: HARTING
footprint 918520x324 (Connector; IDC, Low Profile Male Header, Thru-Hole; 20 Position; Vertical; Pitch 2.54 mm; Body 33.02 x 9.2 x 9.45 mm (LxWxH))
pins: 1, 2, 3, 4, 5, 6, 7, 8, 9, 10, 11, 12, 13, 14, 15, 16, 17, 18, 19, 20

## Harting IDC20 904
designator X?, comment IDC20
Flat Cable Connector (IDC), Standard Male Header, Straight Solder Pin, 20 Contacts, Long Levers, Performance Level 2; PartNumber: 09 18 520 6904; Manufacturer: HARTING
footprint 918520x904 (Connector; IDC, Thru-Hole; 20 Position; Vertical; Pitch 2.54 mm; Body 45.00 x 8.5 x 25.75 mm (LxWxH), Locking levers)
pins: 1, 2, 3, 4, 5, 6, 7, 8, 9, 10, 11, 12, 13, 14, 15, 16, 17, 18, 19, 20

## INA193AIDBV
designator DA?
Current Shunt Monitor −16 V to +80 V Common-Mode Range; Manufacturer: Texas Instruments; PartNumber: INA193AIDBV
footprint TI-DBV5_M (SOT23, 5-Leads, Body 2.9x1.6mm, Pitch 0.95mm, IPC Low Density)
pins: 1 OUT (out), 2 GND (power), 3 +IN (in), 4 -IN (in), 5 +V (power)

## INA2128U
designator DA?
Dual, Low Power Instrumentation Amplifier, -40 to 85 degC, 16-pin SOIC (DW16), Green (RoHS & no Sb/Br); Manufacturer: Texas Instruments; PartNumber: INA2128U; CMRR(Min)(dB): 120; Dual Supply: TRUE; Gain(V/V): 1 to 10000; Input Offset (+/-)(Max)(uV): 50; Number of Channels: 2; Slew Rate(Typ)(V/us): 4; SubFamily: Difference Amplifier; Vs(Max)(V): 36; Vs(Min)(V): 4.5; DatasheetVersion: SBOS035A; PackageVersion: 4040000-2/G, 01/2011; PackageReference: DW16; PackageDescription: 16-Pin Plastic Small Outline, Body 10.30 x 7.50 mm, Pitch 1.27 mm; Eco-Plan: Green (RoHS & no Sb/Br); Mounting Technology: Surface Mount; Code_JEDEC: MS-013; ComponentLink1Description: Manufacturer URL; ComponentLink1URL: http://www.ti.com/; ComponentLink2Description: Datasheet; ComponentLink2URL: http://www.ti.com/general/docs/lit/getliterature.tsp?genericPartNumber=INA2128&fileType=pdf; ComponentLink3Description: Package Specification; ComponentLink3URL: http://www.ti.com/litv/pdf/msoi003g
footprint TI-DW16_N (SOIC, 16-Leads, Body 10.5x7.6mm, Pitch 1.27mm, IPC Medium Density)
pins on every part: 8 V- (power), 9 V+ (power)
part A pins: 1 VINA- (in), 2 VINA+ (in), 3 RGA (in), 4 RGA (in), 5 REFA (in), 6 VOA (out), 7 SENSEA (in)
part B pins: 10 SENSEB (in), 11 VOB (out), 12 REFB (in), 13 RGB (in), 14 RGB (in), 15 VINB+ (in), 16 VINB- (in)

## INA2132UA
designator DA?
Dual, Low Power, Single-Supply Difference Amplifier, -40 to 85 degC, 14-pin SOIC (D14), Green (RoHS & no Sb/Br); Manufacturer: Texas Instruments; PartNumber: INA2132UA; CMRR(Min)(dB): 74; Gain(V/V): 1; Input Offset (+/-)(Max)(uV): 500; Number of Channels: 2; Slew Rate(Typ)(V/us): 0.1; Vs(Max)(V): 36; Vs(Min)(V): 2.7; DatasheetVersion: SBOS108; PackageVersion: 4040047-5/M, 06/2011; PackageReference: D14; PackageDescription: 14-Pin Plastic Small Outline, Body 8.65 x 3.9 mm, Pitch 1.27 mm; Eco-Plan: Green (RoHS & no Sb/Br); SubFamily: Difference Amplifier; Mounting Technology: Surface Mount; Code_JEDEC: MS-012; ComponentLink1Description: Manufacturer URL; ComponentLink1URL: http://www.ti.com/; ComponentLink2Description: Datasheet; ComponentLink2URL: http://www.ti.com/general/docs/lit/getliterature.tsp?genericPartNumber=INA2132&fileType=pdf; ComponentLink3Description: Package Specification; ComponentLink3URL: http://www.ti.com/lit/ml/mpds177g/mpds177g.pdf
footprint TI-D14_N (SOIC, 14-Leads, Body 8.75x4mm, Pitch 1.27mm, IPC Medium Density)
pins on every part: 4 V- (power), 11 V+ (power)
part A pins: 1 NC, 2 IN A- (in), 3 IN A+ (in), 12 SENSE A (in), 13 OUT A (out), 14 REF A (in)
part B pins: 5 IN B+ (in), 6 IN B- (in), 7 NC, 8 REF B (in), 9 OUT B (out), 10 SENSE B (in)

## ISO124U
designator DA?
Precision Low Cost Isolation Amplifier, -25 to 85 degC, 8-pin SOIC (DVA8), Green (RoHS & no Sb/Br); Manufacturer: Texas Instruments; PartNumber: ISO124U/1KE4; Gain Non-Linearity (+/-)(Max)(%): 0.01; Isolation Mode Rejection 60Hz(Typ)(dB): 140; Isolation Voltage Pulse/Test Peak(V): 2400; Leakage Current at 240V/60Hz(Max)(uArms): 0.5; Small Signal Bandwidth(Typ)(kHz): 50; DatasheetVersion: SBOS074C; PackageVersion: 4202103/B, 08/2001; PackageReference: DVA8; PackageDescription: 8-Pin Plastic Small Outline, Body 17.9 x 7.5 mm, Pitch 1.27 mm; Supplier Part Number 1: ISO124U/1KE4-ND; Supplier Part Number 2: 28M6202; Supplier Part Number 3: 595-ISO124U/1KE4; Eco-Plan: Green (RoHS & no Sb/Br); SubFamily: Isolation Amplifier; Mounting Technology: Surface Mount; Code_JEDEC: MS-013-AE; ComponentLink1Description: Manufacturer URL; ComponentLink1URL: http://www.ti.com/; ComponentLink2Description: Datasheet; ComponentLink2URL: http://www.ti.com/general/docs/lit/getliterature.tsp?genericPartNumber=ISO124&fileType=pdf; ComponentLink3Description: Package Specification; ComponentLink3URL: http://www.ti.com/litv/pdf/mcdi039
footprint TI-DVA8_N (SOIC, 8-Leads, Body 17.9x7.5mm, Pitch 1.27mm, IPC Medium Density)
pins: 1 +VS1 (power), 2 -VS1 (power), 13 VO (out), 14 GND2 (power), 15 +VS2 (power), 16 -VS2 (power), 27 VI (in), 28 GND1 (power)

## KPX-G1205B
designator B?
Magnetic Buzzer; Manufacturer: KEPO; PartNumber: KPX-G1205B
footprint KPX-G12
pins: 1 +, 2 -

## LL-S172GC-2A
designator VD?  value Green
LED Green SMD; PartNumber: LL-S172GC-2A; Manufacturer: Lucky Light
footprint SMD_LED_LL
footprint SMD_LED_LL_GREEN (Chip Diode, 2-Leads, Body 2,00x1,25mm, IPC Low Density)
pins: 1 ANODE, 2 CATHODE

## LL-S172SC-2S
designator VD?  value Red
LED Red SMD; PartNumber: LL-S172SC-2S; Manufacturer: Lucky Light
footprint SMD_LED_LL
footprint SMD_LED_LL_RED (Chip Diode, 2-Leads, Body 2,00x1,25mm, IPC Low Density)
pins: 1 ANODE, 2 CATHODE

## LM317MDCY
designator DA?
Voltage regulator Liner, Vin=2.5-40V, Vo1.25-V to 37, Io=500mA; Manufacturer: Texas Instruments; PartNumber: LM317MDCY
footprint SOT-223_M (SOT223, 4-Leads, Body 6.5x3.5mm, Pitch 2.3mm, Lead Span 7mm, IPC Low Density)
pins: 1 ADJ (power), 2 VOUT (power), 3 VIN (power), 4 VOUT (power)

## LM2576HV-12
designator DA?
Buck Step Down Regulator, 60 V Input and 12 V Output, -40 to 125 degC, 5-Pin DDPAK/TO-263 (KTT); Manufacturer: Texas Instruments; PartNumber: LM2576HVSX-12/NOPB
footprint KTT5_M (D2-PAK, 6-Leads, Body 8.9x10.2mm, Pitch 1.7mm, Lead Span 15.2mm, IPC Low Density)
pins: 1 VIN (power), 2 OUT (power), 3 GND (power), 4 FB (in), 5 ~{ON}/OFF (in), 6 GND (power)

## LP5907MFX-4.5
designator DA?
Ultra-Low-Noise LDO, 250 mA, Fixed 4.5 V Output; Manufacturer: Texas Instruments; PartNumber: LP5907MFX-4.5
footprint TI-DBV5_M (SOT23, 5-Leads, Body 2.9x1.6mm, Pitch 0.95mm, IPC Low Density)
pins: 1 IN (power) "Input supply voltage", 2 GND (power) "Ground", 3 EN (in) "Enable input", 4 NC "No connected", 5 OUT (power) "Regulated output voltage"

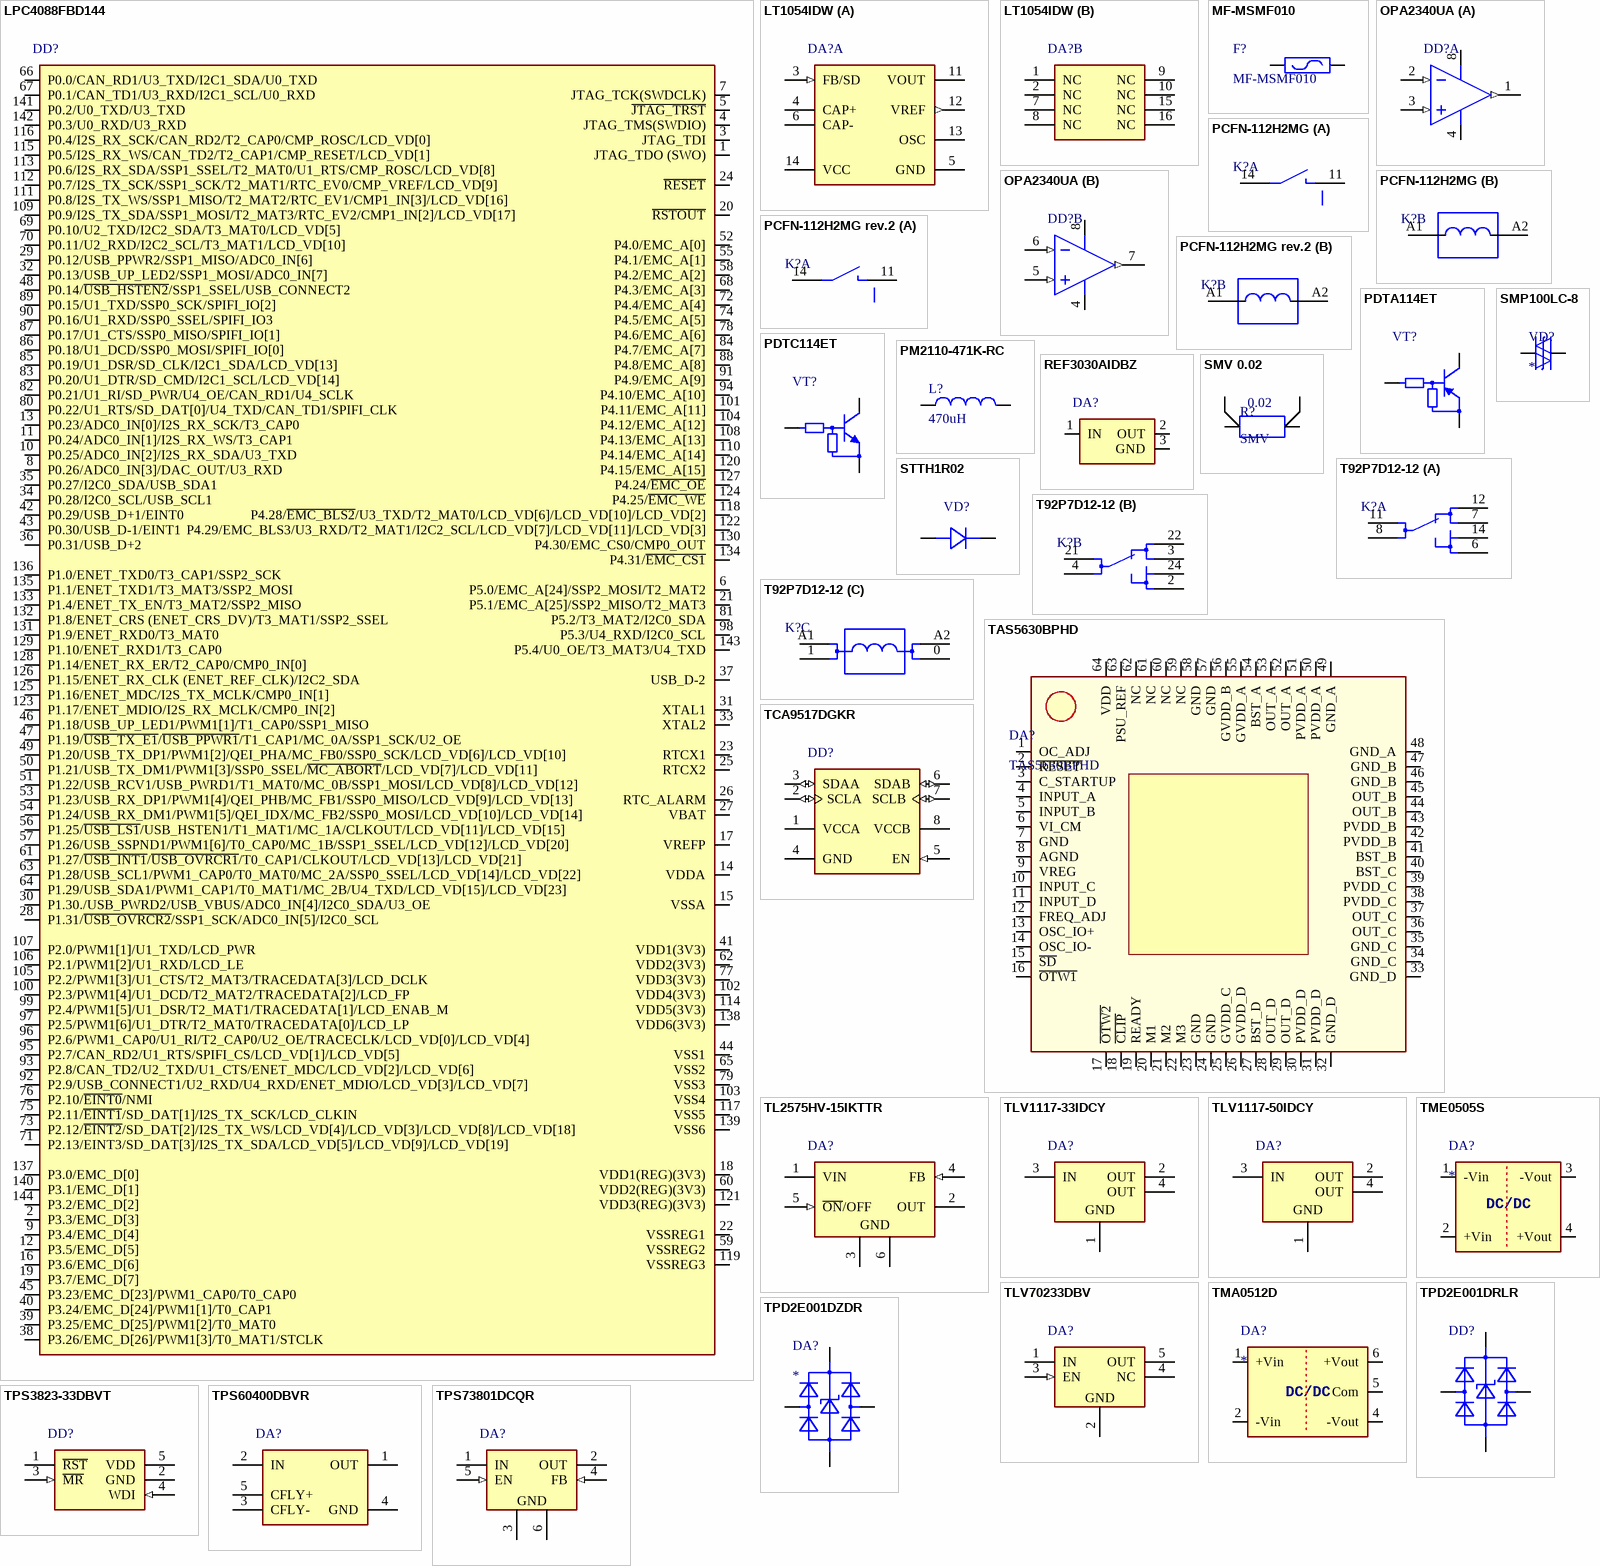
[diagram p3: symbols LPC4088FBD144 to TPS73801DCQR]

## LPC4088FBD144
designator DD?
32-bit ARM Cortex-M4 MCU; PartNumber: LPC4088FBD144; Manufacturer: NXP
footprint SOT486-1_V (Thin QFP, 144-Leads, Body 20x20mm, Pitch 0.5mm, NXP Recommended)
pins: 1 JTAG_TDO (SWO), 2 P3.3/EMC_D[3], 3 JTAG_TDI, 4 JTAG_TMS(SWDIO), 5 ~{JTAG_TRST}, 6 P5.0/EMC_A[24]/SSP2_MOSI/T2_MAT2, 7 JTAG_TCK(SWDCLK), 8 P0.26/ADC0_IN[3]/DAC_OUT/U3_RXD, 9 P3.4/EMC_D[4], 10 P0.25/ADC0_IN[2]/I2S_RX_SDA/U3_TXD, 11 P0.24/ADC0_IN[1]/I2S_RX_WS/T3_CAP1, 12 P3.5/EMC_D[5], 13 P0.23/ADC0_IN[0]/I2S_RX_SCK/T3_CAP0, 14 VDDA, 15 VSSA, 16 P3.6/EMC_D[6], 17 VREFP, 18 VDD1(REG)(3V3), 19 P3.7/EMC_D[7], 20 ~{RSTOUT}, 21 P5.1/EMC_A[25]/SSP2_MISO/T2_MAT3, 22 VSSREG1, 23 RTCX1, 24 ~{RESET}, 25 RTCX2, 26 RTC_ALARM, 27 VBAT, 28 P1.31/~{USB_OVRCR2}/SSP1_SCK/ADC0_IN[5]/I2C0_SCL, 29 P0.12/USB_PPWR2/SSP1_MISO/ADC0_IN[6], 30 P1.30./USB_PWRD2/USB_VBUS/ADC0_IN[4]/I2C0_SDA/U3_OE, 31 XTAL1, 32 P0.13/USB_UP_LED2/SSP1_MOSI/ADC0_IN[7], 33 XTAL2, 34 P0.28/I2C0_SCL/USB_SCL1, 35 P0.27/I2C0_SDA/USB_SDA1, 36 P0.31/USB_D+2, 37 USB_D-2, 38 P3.26/EMC_D[26]/PWM1[3]/T0_MAT1/STCLK, 39 P3.25/EMC_D[25]/PWM1[2]/T0_MAT0, 40 P3.24/EMC_D[24]/PWM1[1]/T0_CAP1, 41 VDD1(3V3), 42 P0.29/USB_D+1/EINT0, 43 P0.30/USB_D-1/EINT1, 44 VSS1, 45 P3.23/EMC_D[23]/PWM1_CAP0/T0_CAP0, 46 P1.18/USB_UP_LED1/PWM1[1]/T1_CAP0/SSP1_MISO, 47 P1.19/~{USB_TX_E1}/~{USB_PPWR1}/T1_CAP1/MC_0A/SSP1_SCK/U2_OE, 48 P0.14/~{USB_HSTEN2}/SSP1_SSEL/USB_CONNECT2, 49 P1.20/USB_TX_DP1/PWM1[2]/QEI_PHA/MC_FB0/SSP0_SCK/LCD_VD[6]/LCD_VD[10], 50 P1.21/USB_TX_DM1/PWM1[3]/SSP0_SSEL/~{MC_ABORT}/LCD_VD[7]/LCD_VD[11], 51 P1.22/USB_RCV1/USB_PWRD1/T1_MAT0/MC_0B/SSP1_MOSI/LCD_VD[8]/LCD_VD[12], 52 P4.0/EMC_A[0], 53 P1.23/USB_RX_DP1/PWM1[4]/QEI_PHB/MC_FB1/SSP0_MISO/LCD_VD[9]/LCD_VD[13], 54 P1.24/USB_RX_DM1/PWM1[5]/QEI_IDX/MC_FB2/SSP0_MOSI/LCD_VD[10]/LCD_VD[14], 55 P4.1/EMC_A[1], 56 P1.25/~{USB_LS1}/USB_HSTEN1/T1_MAT1/MC_1A/CLKOUT/LCD_VD[11]/LCD_VD[15], 57 P1.26/USB_SSPND1/PWM1[6]/T0_CAP0/MC_1B/SSP1_SSEL/LCD_VD[12]/LCD_VD[20], 58 P4.2/EMC_A[2], 59 VSSREG2, 60 VDD2(REG)(3V3), 61 P1.27/~{USB_INT1}/~{USB_OVRCR1}/T0_CAP1/CLKOUT/LCD_VD[13]/LCD_VD[21], 62 VDD2(3V3), 63 P1.28/USB_SCL1/PWM1_CAP0/T0_MAT0/MC_2A/SSP0_SSEL/LCD_VD[14]/LCD_VD[22], 64 P1.29/USB_SDA1/PWM1_CAP1/T0_MAT1/MC_2B/U4_TXD/LCD_VD[15]/LCD_VD[23], 65 VSS2, 66 P0.0/CAN_RD1/U3_TXD/I2C1_SDA/U0_TXD, 67 P0.1/CAN_TD1/U3_RXD/I2C1_SCL/U0_RXD, 68 P4.3/EMC_A[3], 69 P0.10/U2_TXD/I2C2_SDA/T3_MAT0/LCD_VD[5], 70 P0.11/U2_RXD/I2C2_SCL/T3_MAT1/LCD_VD[10], 71 P2.13/EINT3/SD_DAT[3]/I2S_TX_SDA/LCD_VD[5]/LCD_VD[9]/LCD_VD[19], 72 P4.4/EMC_A[4], 73 P2.12/~{EINT2}/SD_DAT[2]/I2S_TX_WS/LCD_VD[4]/LCD_VD[3]/LCD_VD[8]/LCD_VD[18], 74 P4.5/EMC_A[5], 75 P2.11/~{EINT1}/SD_DAT[1]/I2S_TX_SCK/LCD_CLKIN, 76 P2.10/~{EINT0}/NMI, 77 VDD3(3V3), 78 P4.6/EMC_A[6], 79 VSS3, 80 P0.22/U1_RTS/SD_DAT[0]/U4_TXD/CAN_TD1/SPIFI_CLK, 81 P5.2/T3_MAT2/I2C0_SDA, 82 P0.21/U1_RI/SD_PWR/U4_OE/CAN_RD1/U4_SCLK, 83 P0.20/U1_DTR/SD_CMD/I2C1_SCL/LCD_VD[14], 84 P4.7/EMC_A[7], 85 P0.19/U1_DSR/SD_CLK/I2C1_SDA/LCD_VD[13], 86 P0.18/U1_DCD/SSP0_MOSI/SPIFI_IO[0], 87 P0.17/U1_CTS/SSP0_MISO/SPIFI_IO[1], 88 P4.8/EMC_A[8], 89 P0.15/U1_TXD/SSP0_SCK/SPIFI_IO[2], 90 P0.16/U1_RXD/SSP0_SSEL/SPIFI_IO3, 91 P4.9/EMC_A[9], 92 P2.9/USB_CONNECT1/U2_RXD/U4_RXD/ENET_MDIO/LCD_VD[3]/LCD_VD[7], 93 P2.8/CAN_TD2/U2_TXD/U1_CTS/ENET_MDC/LCD_VD[2]/LCD_VD[6], 94 P4.10/EMC_A[10], 95 P2.7/CAN_RD2/U1_RTS/SPIFI_CS/LCD_VD[1]/LCD_VD[5], 96 P2.6/PWM1_CAP0/U1_RI/T2_CAP0/U2_OE/TRACECLK/LCD_VD[0]/LCD_VD[4], 97 P2.5/PWM1[6]/U1_DTR/T2_MAT0/TRACEDATA[0]/LCD_LP, 98 P5.3/U4_RXD/I2C0_SCL, 99 P2.4/PWM1[5]/U1_DSR/T2_MAT1/TRACEDATA[1]/LCD_ENAB_M, 100 P2.3/PWM1[4]/U1_DCD/T2_MAT2/TRACEDATA[2]/LCD_FP, 101 P4.11/EMC_A[11], 102 VDD4(3V3), 103 VSS4, 104 P4.12/EMC_A[12], 105 P2.2/PWM1[3]/U1_CTS/T2_MAT3/TRACEDATA[3]/LCD_DCLK, 106 P2.1/PWM1[2]/U1_RXD/LCD_LE, 107 P2.0/PWM1[1]/U1_TXD/LCD_PWR, 108 P4.13/EMC_A[13], 109 P0.9/I2S_TX_SDA/SSP1_MOSI/T2_MAT3/RTC_EV2/CMP1_IN[2]/LCD_VD[17], 110 P4.14/EMC_A[14], 111 P0.8/I2S_TX_WS/SSP1_MISO/T2_MAT2/RTC_EV1/CMP1_IN[3]/LCD_VD[16], 112 P0.7/I2S_TX_SCK/SSP1_SCK/T2_MAT1/RTC_EV0/CMP_VREF/LCD_VD[9], 113 P0.6/I2S_RX_SDA/SSP1_SSEL/T2_MAT0/U1_RTS/CMP_ROSC/LCD_VD[8], 114 VDD5(3V3), 115 P0.5/I2S_RX_WS/CAN_TD2/T2_CAP1/CMP_RESET/LCD_VD[1], 116 P0.4/I2S_RX_SCK/CAN_RD2/T2_CAP0/CMP_ROSC/LCD_VD[0], 117 VSS5, 118 P4.28/~{EMC_BLS2}/U3_TXD/T2_MAT0/LCD_VD[6]/LCD_VD[10]/LCD_VD[2], 119 VSSREG3, 120 P4.15/EMC_A[15], 121 VDD3(REG)(3V3), 122 P4.29/EMC_BLS3/U3_RXD/T2_MAT1/I2C2_SCL/LCD_VD[7]/LCD_VD[11]/LCD_VD[3], 123 P1.17/ENET_MDIO/I2S_RX_MCLK/CMP0_IN[2], 124 P4.25/~{EMC_WE}, 125 P1.16/ENET_MDC/I2S_TX_MCLK/CMP0_IN[1], 126 P1.15/ENET_RX_CLK (ENET_REF_CLK)/I2C2_SDA, 127 P4.24/~{EMC_OE}, 128 P1.14/ENET_RX_ER/T2_CAP0/CMP0_IN[0], 129 P1.10/ENET_RXD1/T3_CAP0, 130 P4.30/EMC_CS0/CMP0_OUT, 131 P1.9/ENET_RXD0/T3_MAT0, 132 P1.8/ENET_CRS (ENET_CRS_DV)/T3_MAT1/SSP2_SSEL, 133 P1.4/ENET_TX_EN/T3_MAT2/SSP2_MISO, 134 P4.31/~{EMC_CS1}, 135 P1.1/ENET_TXD1/T3_MAT3/SSP2_MOSI, 136 P1.0/ENET_TXD0/T3_CAP1/SSP2_SCK, 137 P3.0/EMC_D[0], 138 VDD6(3V3), 139 VSS6, 140 P3.1/EMC_D[1], 141 P0.2/U0_TXD/U3_TXD, 142 P0.3/U0_RXD/U3_RXD, 143 P5.4/U0_OE/T3_MAT3/U4_TXD, 144 P3.2/EMC_D[2]

## LT1054IDW
designator DA?
-5 V, Buck / Boost Charge Pump, 100 mA, 3.5 to 15 V Input, -40 to 85 degC, 16-pin SOIC (DW16), Green (RoHS & no Sb/Br); Manufacturer: Texas Instruments; PartNumber: LT1054IDW; Iout(Max)(A): 0.1; Iq(Typ)(mA): 2.5; Switching Frequency(Max)(kHz): 35; Vin(Max)(V): 15; Vin(Min)(V): 3.5; Vout(Max)(V): -5.2; Vout(Min)(V): -4.7; DatasheetVersion: SLVS033F; PackageVersion: 4040000-2/G; PackageReference: DW16; PackageDescription: 16-Pin Plastic Small Outline, Body 10.30 x 7.50 mm, Pitch 1.27 mm; Eco-Plan: Green (RoHS & no Sb/Br); Preset Vout(V): -5; Topology: Buck/Boost; Mounting Technology: Surface Mount; Code_JEDEC: MS-013; ComponentLink1Description: Manufacturer URL; ComponentLink1URL: http://www.ti.com/; ComponentLink2Description: Datasheet; ComponentLink2URL: http://www.ti.com/general/docs/lit/getliterature.tsp?genericPartNumber=LT1054&fileType=pdf; ComponentLink3Description: Package Specification; ComponentLink3URL: http://www.ti.com/litv/pdf/msoi003g
footprint TI-DW16_N (SOIC, 16-Leads, Body 10.5x7.6mm, Pitch 1.27mm, IPC Medium Density)
part A pins: 3 FB/SD (in), 4 CAP+, 5 GND (power), 6 CAP-, 11 VOUT (power), 12 VREF (out), 13 OSC, 14 VCC (power)
part B pins: 1 NC, 2 NC, 7 NC, 8 NC, 9 NC, 10 NC, 15 NC, 16 NC

## MF-MSMF010
designator F?
Manufacturer: BOURNS; PartNumber: MF-MSMF010
pins: 1, 2

## OPA2340UA
designator DD?
Single-Supply, Rail-to-Rail Operational Amplifier MicroAmplifier(TM) Series, 2.5 to 5.5 V, -40 to 85 degC, 8-pin SOIC (D8), Green (RoHS & no Sb/Br); Manufacturer: Texas Instruments; PartNumber: OPA2340UA
footprint TI-D8_M (SOIC, 8-Leads, Body 4.9x3.9mm, Pitch 1.27mm, IPC Low Density)
pins on every part: 4 V- (power), 8 V+ (power)
part A pins: 1 OUT A (out), 2 IN A- (in), 3 IN A+ (in)
part B pins: 5 IN B+ (in), 6 IN B- (in), 7 OUT B (out)

## PCFN-112H2MG
designator K?
1 POLE - 26A; Coil 12VDC; Slim Power Relay; PartNumber: PCFN-112H2MG; Manufacturer: Fujitsu
footprint PCFN-112H2MG
part A pins: 11, 14
part B pins: A1, A2

## PCFN-112H2MG rev.2
designator K?
1 POLE - 26A; Coil 12VDC; Slim Power Relay; PartNumber: PCFN-112H2MG; Manufacturer: Fujitsu
footprint PCFN-112H2MG rev.2
part A pins: 11, 14
part B pins: A1, A2

## PDTA114ET
designator VT?
Digital Transistor (BRT), R1=10 kOhm, R2=10 kOhm, PNP Transistor; Manufacturer: NXP; PartNumber: PDTA114ET
footprint SOT-23-3 (SOT23, 3-Leads, Body 2.92x1.3mm, Pitch 0.95mm)
pins: 1 B, 2 E, 3 C

## PDTC114ET
designator VT?
Digital Transistor (BRT), R1=10 kOhm, R2=10 kOhm, NPN Transistor; Manufacturer: On Semiconductor; PartNumber: PDTC114ET
footprint SOT-23-3 (SOT23, 3-Leads, Body 2.92x1.3mm, Pitch 0.95mm)
pins: 1 B, 2 E, 3 C

## PM2110-471K-RC
designator L?, comment 470uH
SMD Power Inductor; Manufacturer: BOURNS; PartNumber: PM2110-471K-RC; Value: 470uH
footprint PM2110
pins: 1, 2

## REF3030AIDBZ
designator DA?
3.0 V, 50 ppm / degC, 50 uA Series (Bandgap) Voltage Reference, -40 to 125 degC, 3-pin SOT-23 (DBZ); Manufacturer: Texas Instruments; PartNumber: REF3030AIDBZR
footprint TI-DBZ3_N (SOT23, 3-Leads, Body 2.92x1.3 mm, Pitch 0.95 mm, IPC Medium Density)
pins: 1 IN (power), 2 OUT (power), 3 GND (power)

## SMP100LC-8
designator VD?
SMP100LC-8; Manufacturer: ST; PartNumber: SMP100LC-8
footprint SMP100LC (SODFL, 2-Leads, Body 3,63x5,35mm, IPC Low Density)
pins: 1, 2

## SMV 0.02
designator R?, comment SMV  value 0.02
SMV 5W R020 1% 30ppm; PartNumber: SMV-R020-1.0; Manufacturer: ISABELLENHUETTE
footprint SMV
pins: 1, 2, 3, 4

## STTH1R02
designator VD?  (value not drawn)
1.5A/200V  Ultrafast recovery diode; Manufacturer: STMicroelectronics; PartNumber: STTH1R02
footprint DO-41 (AXIAL, 2-Leads, Diameter 5.2mm)
pins: 1 ANODE, 2 CATHODE

## T92P7D12-12
designator K?
2 POLE - 30A Power Relay; PartNumber: 6-1393211-5; Manufacturer: Tico Electronix
footprint T92P7D12-12
part A pins: 6, 7, 8, 11, 12, 14
part B pins: 2, 3, 4, 21, 22, 24
part C pins: 0, 1, A1, A2
1 alternate drawing of the same symbol